# EAGLE library part ATX12V_MAIN (library breakouts)
ATX12V Main Connector
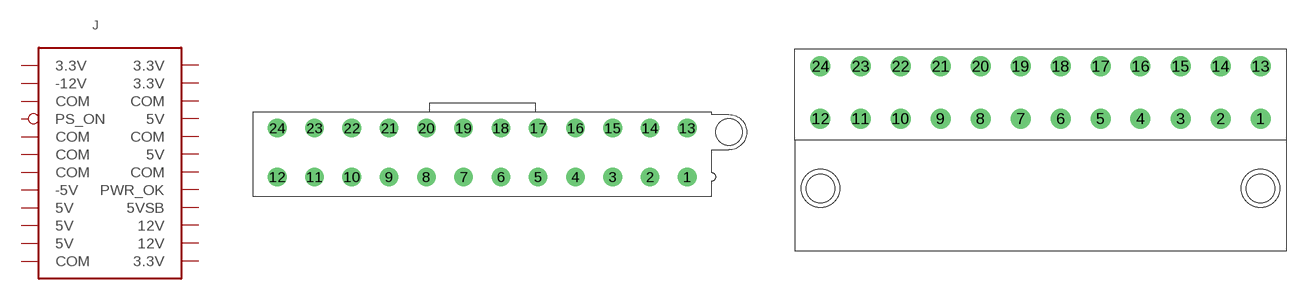
[diagram p0: symbol with the pads of 44206-0007; footprints 44206-0007, 39-30-1240]

Designator prefix J

## ATX12V_MAIN_VERT  [44206-0007]
1  3.3V  pwr
2  3.3V  pwr
3  COM  pwr
4  5V  pwr
5  COM  pwr
6  5V  pwr
7  COM  pwr
8  PWR_OK  pwr
9  5VSB  pwr
10  12V  pwr
11  12V  pwr
12  3.3V  pwr
13  3.3V  pwr
14  -12V  pwr
15  COM  pwr
16  PS_ON  pwr
17  COM  pwr
18  COM  pwr
19  COM  pwr
20  -5V  pwr
21  5V  pwr
22  5V  pwr
23  5V  pwr
24  COM  pwr

## ATX12V_MAIN_RIGHT_ANGLE  [39-30-1240]
Pads as for 44206-0007

## Footprint 44206-0007 (pad centres in mm)
ATX12V Main Connector - Vertical Manufacturer Part Number 44206-0007 <http://www.molex.com/pdm_docs/sd/442060007_sd.pdf> DigiKey Part Number WM9738-ND <http://www.digikey.com/product-detail/en/0442060007/WM9738-ND/3311018> Datasheet datasheets/442060007_sd.pdf
drill 1.4: 1 23.1,0; 2 18.9,0; 3 14.7,0; 4 10.5,0; 5 6.3,0; 6 2.1,0; 7 -2.1,0; 8 -6.3,0; 9 -10.5,0; 10 -14.7,0; 11 -18.9,0; 12 -23.1,0; 13 23.1,5.5; 14 18.9,5.5; 15 14.7,5.5; 16 10.5,5.5; 17 6.3,5.5; 18 2.1,5.5; 19 -2.1,5.5; 20 -6.3,5.5; 21 -10.5,5.5; 22 -14.7,5.5; 23 -18.9,5.5; 24 -23.1,5.5
hole 3 at 27.8,5.04

## Footprint 39-30-1240 (pad centres in mm)
ATX12V Main Connector - Right Angle Manufacturer Part Number 39-30-1240 <http://www.molex.com/pdm_docs/sd/039301240_sd.pdf> DigiKey Part Number WM1362-ND <http://www.digikey.com/product-detail/en/0039301240/WM1362-ND/561088> Datasheet datasheets/039301240_sd.pdf
drill 1.4: 1 23.1,-0.1; 2 18.9,-0.1; 3 14.7,-0.1; 4 10.5,-0.1; 5 6.3,-0.1; 6 2.1,-0.1; 7 -2.1,-0.1; 8 -6.3,-0.1; 9 -10.5,-0.1; 10 -14.7,-0.1; 11 -18.9,-0.1; 12 -23.1,-0.1; 13 23.1,5.4; 14 18.9,5.4; 15 14.7,5.4; 16 10.5,5.4; 17 6.3,5.4; 18 2.1,5.4; 19 -2.1,5.4; 20 -6.3,5.4; 21 -10.5,5.4; 22 -14.7,5.4; 23 -18.9,5.4; 24 -23.1,5.4
hole 3 at 23.1,-7.4
hole 3 at -23.1,-7.4